# Altium schematic symbol library SamacSys.SchLib: 4 symbols
Pins are listed as number, name and electrical type; pins without a type are passive.

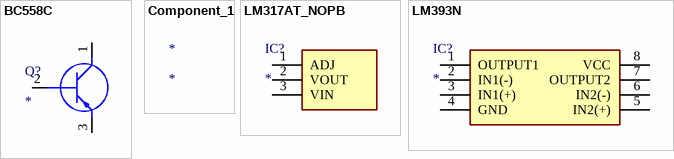
[diagram p0: symbols BC558C to LM393N]

## BC558C
designator Q?
Transistor BJT PNP; Manufacturer_Name: onsemi; Manufacturer_Part_Number: BC558C; Description: Obsolete - Transistor Silicon Plastic; Datasheet Link: https://www.onsemi.com/download/data-sheet/pdf/BC556B-D.PDF; Height: 5.33mm; Mouser Part Number: 512-BC558C; Mouser Price/Stock: https://www.mouser.com/Search/Refine.aspx?Keyword=512-BC558C
footprint BC558C
pins: 1 C, 2 B, 3 E

## Component_1
designator *

## LM317AT_NOPB
designator IC?
Integrated Circuit; Manufacturer_Name: Texas Instruments; Manufacturer_Part_Number: LM317AT/NOPB; Datasheet Link: http://www.ti.com/lit/gpn/lm317a; Height: 4.7mm; Mouser Part Number: 926-LM317AT/NOPB; Mouser Price/Stock: https://www.mouser.co.uk/ProductDetail/Texas-Instruments/LM317AT-NOPB?qs=X1J7HmVL2ZFYFJRcNgsWcQ%3D%3D; Arrow Part Number: LM317AT/NOPB; Arrow Price/Stock: https://www.arrow.com/en/products/lm317atnopb/texas-instruments?region=nac
footprint TO254P470X1028X1955-3P
pins: 1 ADJ, 2 VOUT, 3 VIN

## LM393N
designator IC?
Integrated Circuit; Manufacturer_Name: Texas Instruments; Manufacturer_Part_Number: LM393N; Description: COMP DUAL LO PWR; Datasheet Link: https://datasheet.datasheetarchive.com/originals/distributors/Datasheets-SFU2/DSASFU100036444.pdf; Height: 5.33mm; Mouser Part Number: 926-LM393N; Mouser Price/Stock: https://www.mouser.co.uk/ProductDetail/Texas-Instruments/LM393N?qs=QbsRYf82W3HvgSG%252BWhL68w%3D%3D
footprint DIP787W53P254L980H533Q8N
pins: 1 OUTPUT1, 2 IN1(-), 3 IN1(+), 4 GND, 5 IN2(+), 6 IN2(-), 7 OUTPUT2, 8 VCC